# EAGLE library part CC1050 (library chipcon-ti-v2-alliv)
Single Chip Very Low Power RF Transmitter
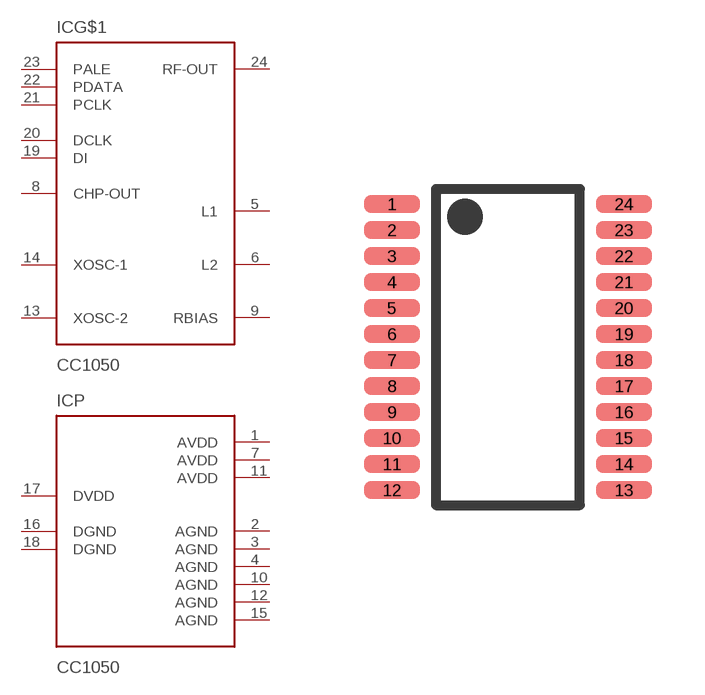
[diagram p4: symbol with the pads of TSSOP24; footprint TSSOP24]

Designator prefix IC; gates G$1=CC1050 P=CC1050-PWR

## CC1050  [TSSOP24]
1  P:AVDD  pwr
2  P:AGND  pwr
3  P:AGND  pwr
4  P:AGND  pwr
5  G$1:L1  in
6  G$1:L2  in
7  P:AVDD  pwr
8  G$1:CHP-OUT  out
9  G$1:RBIAS  out
10  P:AGND  pwr
11  P:AVDD  pwr
12  P:AGND  pwr
13  G$1:XOSC-2  out
14  G$1:XOSC-1  in
15  P:AGND  pwr
16  P:DGND  pwr
17  P:DVDD  pwr
18  P:DGND  pwr
19  G$1:DI  in
20  G$1:DCLK  out
21  G$1:PCLK  in
22  G$1:PDATA
23  G$1:PALE  in
24  G$1:RF-OUT  out

## Footprint TSSOP24 (pad centres in mm)
TSOP65P640X120-24N
smd 1.4 x 0.45: 1 -2.9,3.575; 2 -2.9,2.925; 3 -2.9,2.275; 4 -2.9,1.625; 5 -2.9,0.975; 6 -2.9,0.325; 7 -2.9,-0.325; 8 -2.9,-0.975; 9 -2.9,-1.625; 10 -2.9,-2.275; 11 -2.9,-2.925; 12 -2.9,-3.575; 13 2.9,-3.575; 14 2.9,-2.925; 15 2.9,-2.275; 16 2.9,-1.625; 17 2.9,-0.975; 18 2.9,-0.325; 19 2.9,0.325; 20 2.9,0.975; 21 2.9,1.625; 22 2.9,2.275; 23 2.9,2.925; 24 2.9,3.575